# Altium footprint library Connectors.PcbLib: 24 footprints (part 1 of 2)
Each footprint in its own frame and in the unit in brackets; x right, y up, seen from the top. Pads: shape width x height; smd on the part's side, far side on the other; paste and mask are expansions set on the pad; w line width, h text height; cw(c..) or ccw(c..) is an arc to the next point about the centre after c.
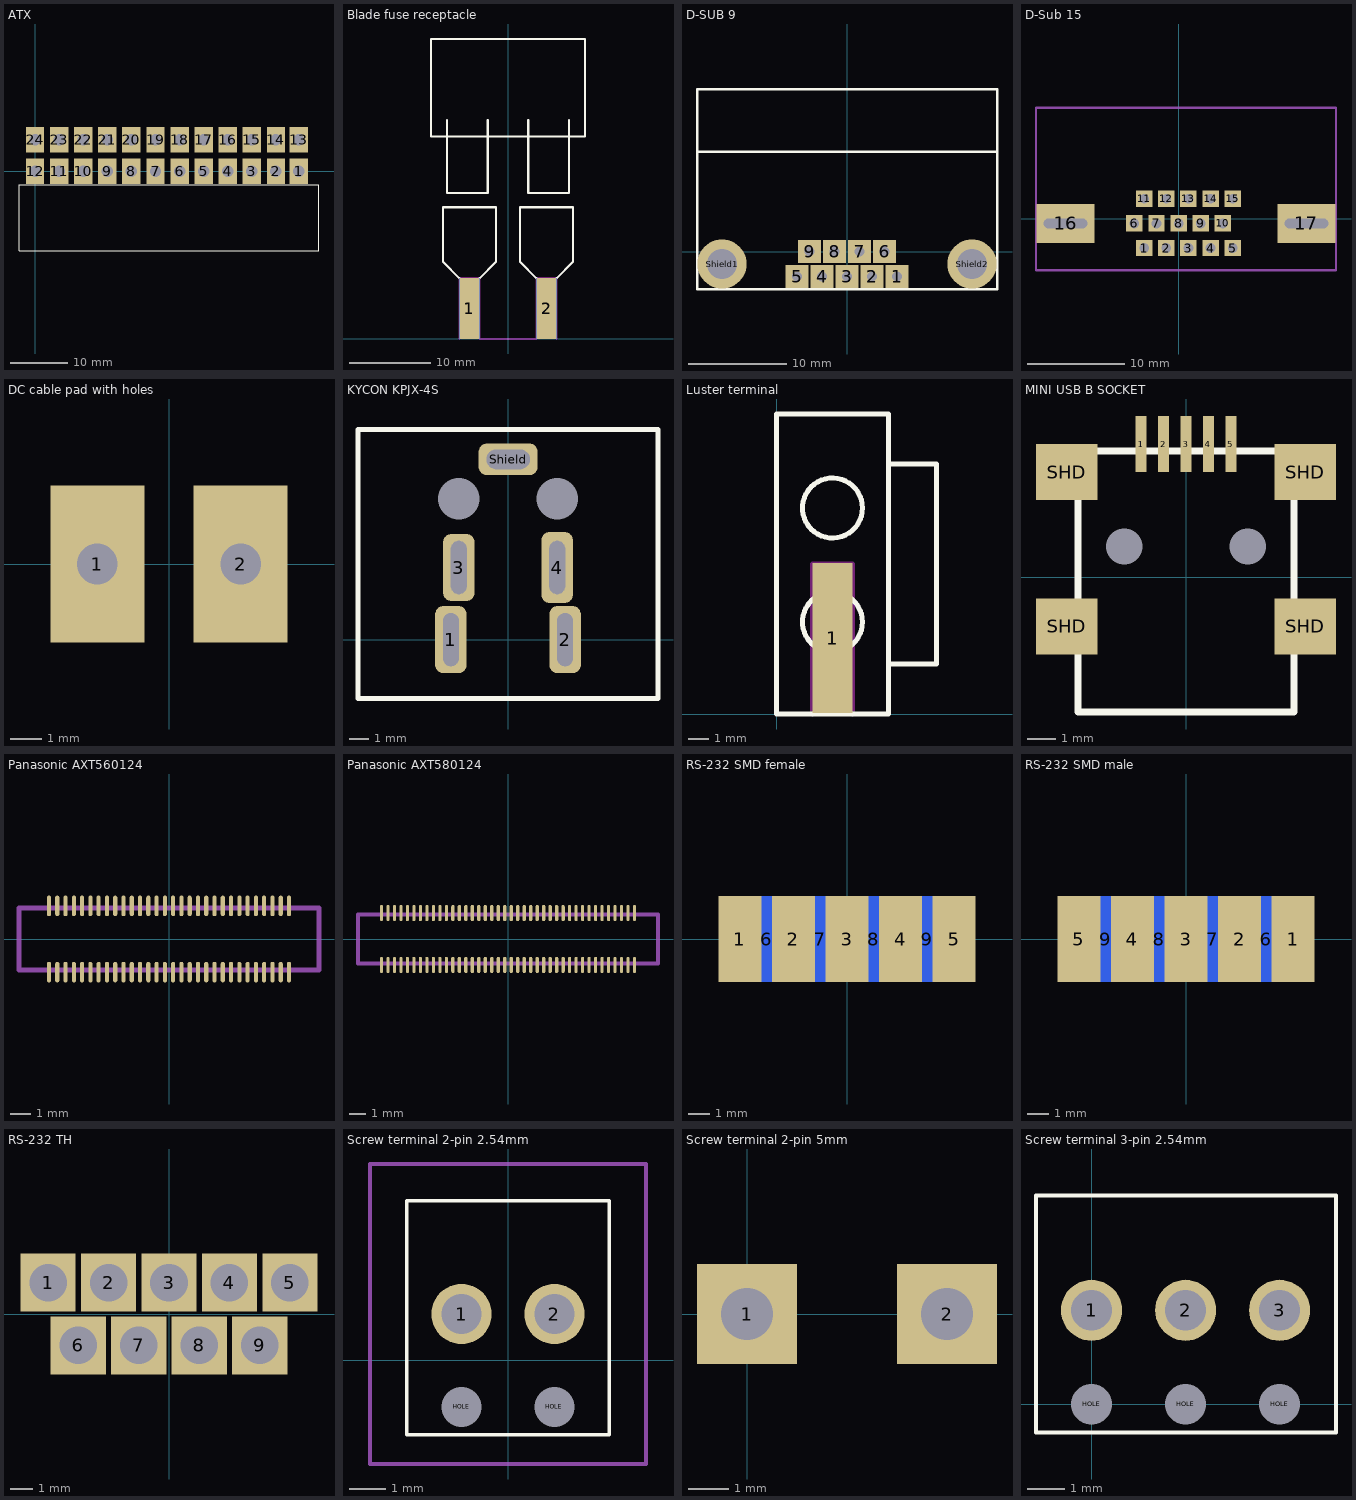
[diagram p0: the footprints below, top view; thin cyan lines are the x and y axes]

## ATX [mm] "Molex MINI-FIT JR. 24-polig"
height 9.6
pads (24):
  rect 3.2x4.4 hole 2 paste+0: 1(46,0) 2(42,0) 3(37.8,0) 4(33.6,0) 5(29.4,0) 6(25.2,0) 7(21,0) 8(16.8,0) 9(12.6,0) 10(8.4,0) 11(4.2,0) 12(0,0) 13(46,5.5) 14(42,5.5) 15(37.8,5.5) 16(33.6,5.5) 17(29.4,5.5) 18(25.2,5.5) 19(21,5.5) 20(16.8,5.5) 21(12.6,5.5) 22(8.4,5.5) 23(4.2,5.5) 24(0,5.5)
Top Overlay:
  lines w0.2: -2.794,-13.9 49.5,-13.9 49.5,-2.34 -2.794,-2.34 -2.794,-13.9
3D body: height 12.4, standoff -2.6, extent -2.632,-13.97 49.368,5.965

## Blade fuse receptacle [mm]
pads (4):
  rect 2.5x7.5 smd mask+0: 1(-4.75,3.75) 2(4.75,3.75)
  rect 2.5x7.5 smd far side mask+0: 1(-4.75,3.75) 2(4.75,3.75)
Top Overlay:
  lines w0.254: -7.5,27 -7.5,18 -2.5,18 -2.5,27 ; -6,7.5 -8,9.5 -8,16.25 -1.5,16.25 -1.5,9.5 -3.5,7.5 ; 2.5,27 2.5,18 7.5,18 7.5,27 ; 3.5,7.5 1.5,9.5 1.5,16.25 8,16.25 8,9.5 6,7.5 ; -9.5,25 -9.5,37 9.5,37 9.5,25 -9.5,25
Keep-Out Layer:
  lines w0.254: -6,0 -6,7.5 -3.5,7.5 -3.5,0 3.5,0 3.5,7.5 6,7.5 6,0

## D-SUB 9 [mm]
pads (11):
  rect 2.3x2.3 hole 1: 1(5.08,-2.54) 2(2.54,-2.54) 3(0,-2.54) 4(-2.54,-2.54) 5(-5.08,-2.54) 6(3.81,0) 7(1.27,0) 8(-1.27,0) 9(-3.81,0)
  round 5 hole 3: Shield1(-12.7,-1.27) Shield2(12.7,-1.27)
Top Overlay:
  lines w0.254: -15.24,10.16 15.24,10.16 ; -15.24,-3.81 15.24,-3.81 15.24,16.51 -15.24,16.51 -15.24,-3.81

## D-Sub 15 [mm] "VGA connector"
pads (17):
  rect 1.7x1.7 hole 1: 1(-3.556,-3.048) 2(-1.27,-3.048) 3(1.016,-3.048) 4(3.302,-3.048) 5(5.588,-3.048) 6(-4.572,-0.508) 7(-2.286,-0.508) 8(0,-0.508) 9(2.286,-0.508) 10(4.572,-0.508) 11(-3.556,2.032) 12(-1.27,2.032) 13(1.016,2.032) 14(3.302,2.032) 15(5.588,2.032)
  rect 6x4 hole 1 slot 4.5 at 0 deg: 16(-11.684,-0.508) 17(13.208,-0.508)
Mechanical 1:
  lines w0.254: -14.732,-5.334 16.256,-5.334 16.256,11.43 -14.732,11.43 -14.732,-5.334
3D body: height 12.77, standoff -3.69, extent -14.665,-5.324 16.135,16.876

## DC cable pad with holes [mm]
pads (2):
  rect 3x5 hole 1.3: 1(-2.286,0) 2(2.286,0)

## KYCON KPJX-4S [mm]
pads (7):
  rrect50% 1.6x3.4 hole 0.8 slot 2.7 at 90 deg unplated: 1(-2.9,0) 2(2.9,0) 3(-2.5,3.662)
  rrect50% 1.6x3.6 hole 0.8 slot 2.7 at 90 deg unplated: 4(2.5,3.662)
  round 0 hole 2.1 unplated: HOLE1(-2.5,7.162) HOLE2(2.5,7.162)
  rrect50% 3x1.6 hole 1 slot 2.2 at 0 deg unplated: Shield(0.01,9.155)
Top Overlay:
  lines w0.254: -7.62,-2.988 7.62,-2.988 7.62,10.668 -7.62,10.668 -7.62,-2.988

## Luster terminal [mm]
pads (1):
  rect 2x7.5 all layers, no hole: 1(2.8,3.8)
Top Overlay:
  circle w0.254: c2.8,10.3 r1.5
  circle w0.254: c2.8,4.6 r1.5
  lines w0.254: 5.6,2.5 8,2.5 8,12.5 5.6,12.5 ; 0,0 0,15 5.6,15 5.6,0 0,0
Keep-Out Layer:
  lines w0.254: 1.8,0 1.8,7.5 3.8,7.5 3.8,0

## MINI USB B SOCKET [mm]
pads (11):
  rect 0.4x2 smd mask+0: 1(-1.6,4.75) 2(-0.8,4.75) 3(0,4.75) 4(0.8,4.75) 5(1.6,4.75)
  rect 0x0 hole 1.3: HOLE(-2.2,1.1) HOLE(2.2,1.1)
  rect 2.2x2 smd mask+0: SHD(-4.25,-1.75) SHD(-4.25,3.75) SHD(4.25,-1.75) SHD(4.25,3.75)
Top Overlay:
  lines w0.254: -3.85,-4.8 -3.85,4.5 3.85,4.5 3.85,-4.8 -3.85,-4.8
3D body: height 4.14, standoff -0.95, extent -4.95,-4.7 4.95,4.5

## Panasonic AXT560124 [mm] "F4S socket 60pos."
pads (60):
  oval 0.2x1 smd mask+0: 1(-5.8,-1.6) 2(-5.8,1.6) 3(-5.4,-1.6) 4(-5.4,1.6) 5(-5,-1.6) 6(-5,1.6) 7(-4.6,-1.6) 8(-4.6,1.6) 9(-4.2,-1.6) 10(-4.2,1.6) 11(-3.8,-1.6) 12(-3.8,1.6) 13(-3.4,-1.6) 14(-3.4,1.6) 15(-3,-1.6) 16(-3,1.6) 17(-2.6,-1.6) 18(-2.6,1.6) 19(-2.2,-1.6) 20(-2.2,1.6) 21(-1.8,-1.6) 22(-1.8,1.6) 23(-1.4,-1.6) 24(-1.4,1.6) 25(-1,-1.6) 26(-1,1.6) 27(-0.6,-1.6) 28(-0.6,1.6) 29(-0.2,-1.6) 30(-0.2,1.6) 31(0.2,-1.6) 32(0.2,1.6) 33(0.6,-1.6) 34(0.6,1.6) 35(1,-1.6) 36(1,1.6) 37(1.4,-1.6) 38(1.4,1.6) 39(1.8,-1.6) 40(1.8,1.6) 41(2.2,-1.6) 42(2.2,1.6) 43(2.6,-1.6) 44(2.6,1.6) 45(3,-1.6) 46(3,1.6) 47(3.4,-1.6) 48(3.4,1.6) 49(3.8,-1.6) 50(3.8,1.6) 51(4.2,-1.6) 52(4.2,1.6) 53(4.6,-1.6) 54(4.6,1.6) 55(5,-1.6) 56(5,1.6) 57(5.4,-1.6) 58(5.4,1.6) 59(5.8,-1.6) 60(5.8,1.6)
Mechanical 1:
  lines w0.254: -7.25,-1.5 -7.25,1.5 7.25,1.5 7.25,-1.5 -7.25,-1.5

## Panasonic AXT580124 [mm] "F4S socket 80pos."
pads (80):
  oval 0.2x1 smd mask+0: 1(-7.8,-1.6) 2(-7.8,1.6) 3(-7.4,-1.6) 4(-7.4,1.6) 5(-7,-1.6) 6(-7,1.6) 7(-6.6,-1.6) 8(-6.6,1.6) 9(-6.2,-1.6) 10(-6.2,1.6) 11(-5.8,-1.6) 12(-5.8,1.6) 13(-5.4,-1.6) 14(-5.4,1.6) 15(-5,-1.6) 16(-5,1.6) 17(-4.6,-1.6) 18(-4.6,1.6) 19(-4.2,-1.6) 20(-4.2,1.6) 21(-3.8,-1.6) 22(-3.8,1.6) 23(-3.4,-1.6) 24(-3.4,1.6) 25(-3,-1.6) 26(-3,1.6) 27(-2.6,-1.6) 28(-2.6,1.6) 29(-2.2,-1.6) 30(-2.2,1.6) 31(-1.8,-1.6) 32(-1.8,1.6) 33(-1.4,-1.6) 34(-1.4,1.6) 35(-1,-1.6) 36(-1,1.6) 37(-0.6,-1.6) 38(-0.6,1.6) 39(-0.2,-1.6) 40(-0.2,1.6) 41(0.2,-1.6) 42(0.2,1.6) 43(0.6,-1.6) 44(0.6,1.6) 45(1,-1.6) 46(1,1.6) 47(1.4,-1.6) 48(1.4,1.6) 49(1.8,-1.6) 50(1.8,1.6) 51(2.2,-1.6) 52(2.2,1.6) 53(2.6,-1.6) 54(2.6,1.6) 55(3,-1.6) 56(3,1.6) 57(3.4,-1.6) 58(3.4,1.6) 59(3.8,-1.6) 60(3.8,1.6) 61(4.2,-1.6) 62(4.2,1.6) 63(4.6,-1.6) 64(4.6,1.6) 65(5,-1.6) 66(5,1.6) 67(5.4,-1.6) 68(5.4,1.6) 69(5.8,-1.6) 70(5.8,1.6) 71(6.2,-1.6) 72(6.2,1.6) 73(6.6,-1.6) 74(6.6,1.6) 75(7,-1.6) 76(7,1.6) 77(7.4,-1.6) 78(7.4,1.6) 79(7.8,-1.6) 80(7.8,1.6)
Mechanical 1:
  lines w0.254: -9.25,-1.5 9.25,-1.5 9.25,1.5 -9.25,1.5 -9.25,-1.5

## RS-232 SMD female [mm]
pads (9):
  rect 2x4 smd: 1(-5,0) 2(-2.5,0) 3(0,0) 4(2.5,0) 5(5,0)
  rect 2x4 smd far side: 6(-3.75,0) 7(-1.25,0) 8(1.25,0) 9(3.75,0)

## RS-232 SMD male [mm]
pads (9):
  rect 2x4 smd: 1(5,0) 2(2.5,0) 3(0,0) 4(-2.5,0) 5(-5,0)
  rect 2x4 smd far side: 6(3.75,0) 7(1.25,0) 8(-1.25,0) 9(-3.75,0)
3D body: height 6.27, standoff -6.27, extent -15.3,-1.9 15.5,15

## RS-232 TH [mm]
pads (9):
  rect 2.5x2.63 hole 1.7: 1(-5.48,1.42) 2(-2.74,1.42) 3(0,1.42) 4(2.74,1.42) 5(5.48,1.42) 6(-4.11,-1.42) 7(-1.37,-1.42) 8(1.37,-1.42) 9(4.11,-1.42)
3D body: height 12.6, standoff -4.3, extent -15.4,-6.275 15.4,6.275

## Screw terminal 2-pin 2.54mm [mm]
pads (4):
  round 1.65 hole 1.1: 1(-1.27,1.27) 2(1.27,1.27)
  round 0.55 hole 1.1 unplated: HOLE(-1.27,-1.27) HOLE(1.27,-1.27)
Top Overlay:
  lines w0.1: -2.77,-2.032 -2.77,4.37 2.77,4.37 2.77,-2.032 -2.77,-2.032
Mechanical 20:
  lines w0.1: -3.77,-2.83 3.77,-2.83 3.77,5.37 -3.77,5.37 -3.77,-2.83

## Screw terminal 2-pin 5mm [mm] "DG301-5.0-02"
pads (2):
  rect 2.5x2.5 hole 1.3: 1(0,0) 2(5,0)
3D body: height 10, standoff -4.4, extent -3.1,-3.1 7.5,4.5

## Screw terminal 3-pin 2.54mm [mm]
pads (6):
  round 1.65 hole 1.1: 1(0,2.54) 2(2.54,2.54) 3(5.08,2.54)
  round 0.55 hole 1.1 unplated: HOLE(0,0) HOLE(2.54,0) HOLE(5.08,0)
Top Overlay:
  lines w0.1: -1.5,-0.762 -1.5,5.64 6.604,5.64 6.604,-0.762 -1.5,-0.762